# Altium integrated library TI_Logic_Flip-Flop,Latch,Register.IntLib: 2598 symbols (part 62 of 122)
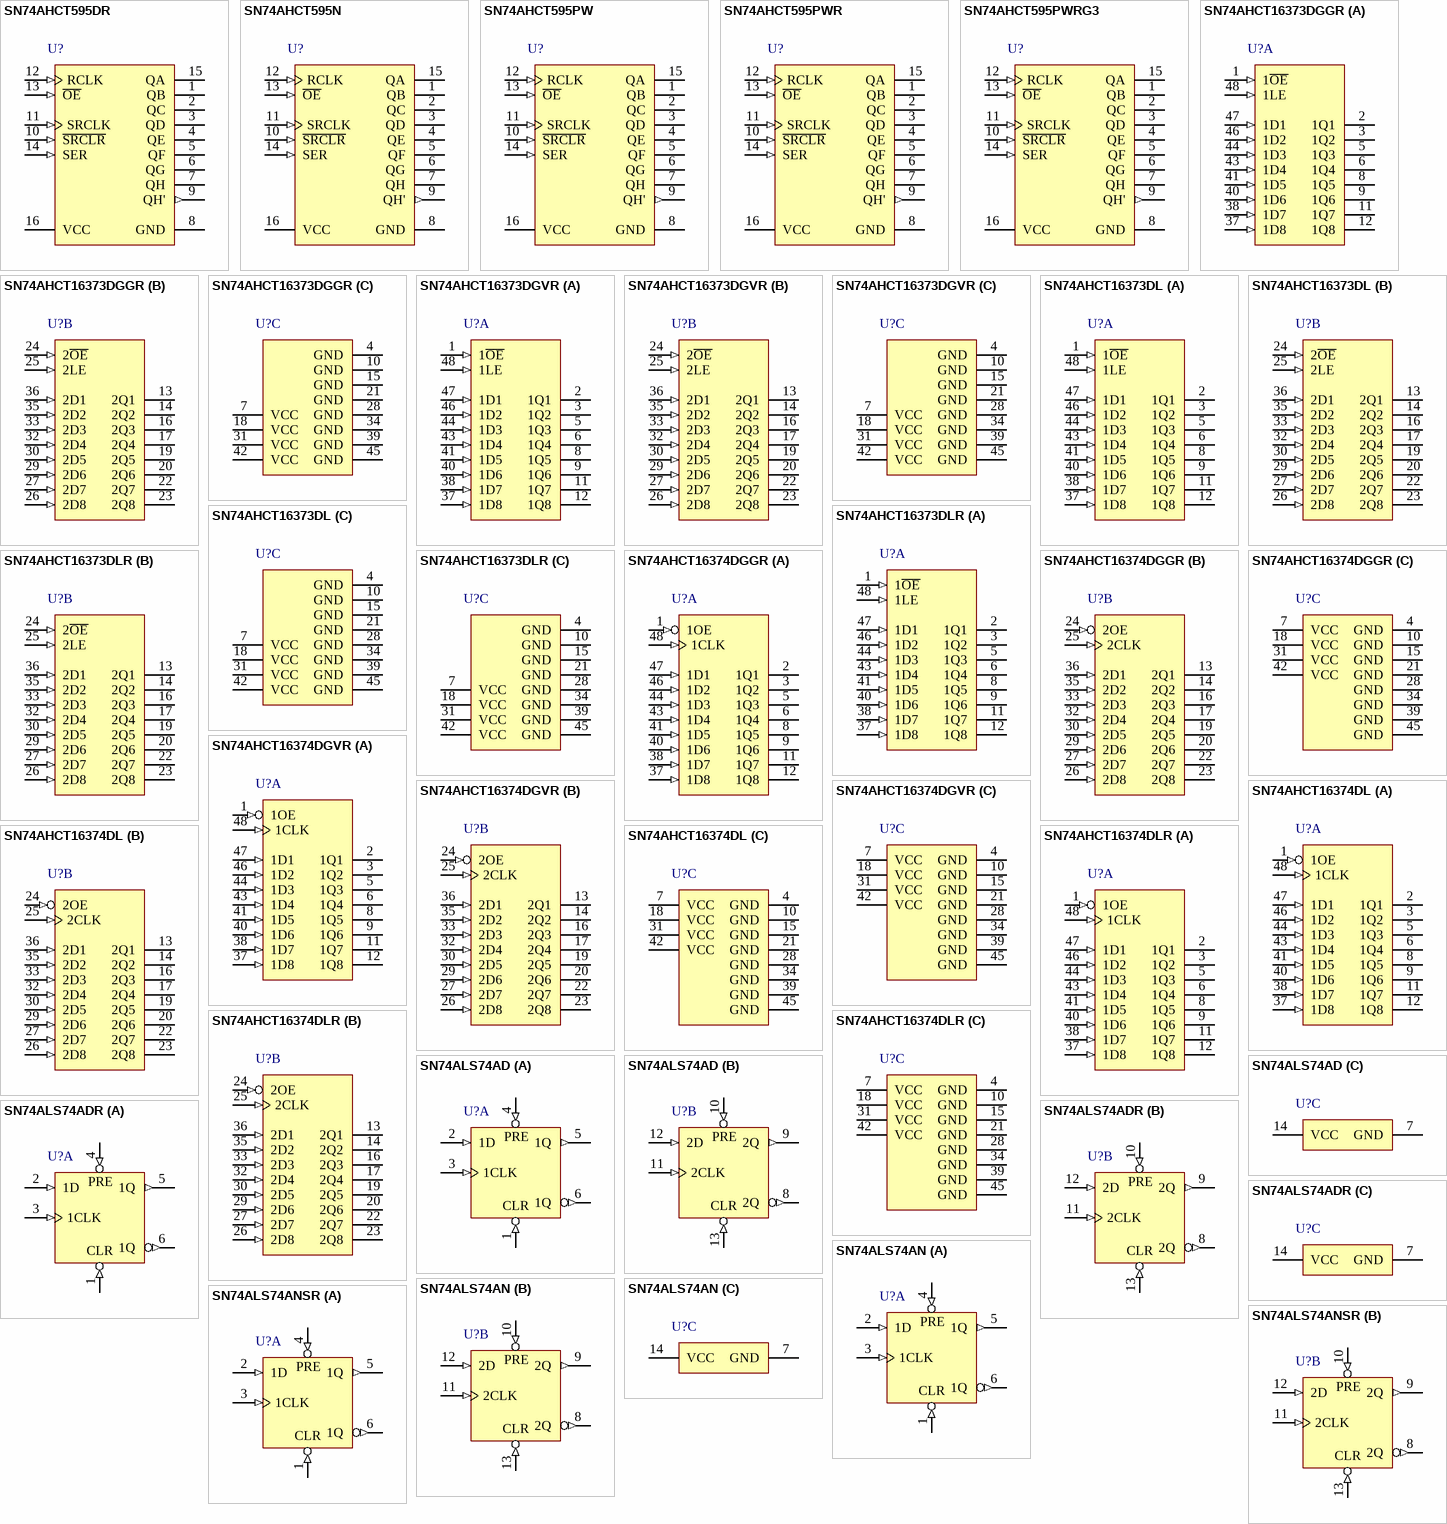
[diagram p200: symbols SN74AHCT595DR to SN74ALS74ANSR]

## SN74ALS74ADR
designator U?
Dual Positive-Edge-Triggered D-Type Flip-Flops With Clear And Preset, D0014A, LARGE T&R; Generic Part Number: SN74ALS74A; Manufacturer: Texas Instruments; PartNumber: SN74ALS74ADR; VCC(Min)(V): 4.5; VCC(Max)(V): 5.5; Output Type: TTL; Output: 3S; ICC @ Nom Voltage(Max)(mA): 4; Bits(#): 2; F @ Nom Voltage(Max)(Mhz): 70; Rating: Catalog; Technology Family: ALS; Voltage(Nom)(V): 5; Schmitt Trigger: No; Output Drive (IOL/IOH)(Max)(mA): 8/-0.4; Output Logic: Inverted,Non-inverted; tpd @ Nom Voltage(Max)(ns): 18; DatasheetVersion: SDAS143C; PackageReference: D0014A; Supplier 1: Digi-Key; Supplier Part Number 1: 296-1130-2-ND; Supplier 2: Digi-Key; Supplier Part Number 2: 296-1130-1-ND; Supplier 3: Digi-Key; Supplier Part Number 3: 296-1130-6-ND; Supplier 4: Newark; Supplier Part Number 4: 76C2202; Supplier 5: Mouser; Supplier Part Number 5: 595-SN74ALS74ADR; Input Type: TTL; Operating Temperature Range(C): 0 to 70; 3-State Output: No; Code_JEDEC: MS-012; ComponentLink1Description: Manufacturer URL; ComponentLink1URL: http://www.ti.com/; ComponentLink2Description: Datasheet; ComponentLink2URL: http://www.ti.com/lit/ds/symlink/sn74als74a.pdf; ComponentLink3Description: Package Specification; ComponentLink3URL: http://www.ti.com/lit/ml/mpds177g/mpds177g.pdf
footprint D0014A_N (SOIC, 14-Leads, Body 8.75x4mm, Pitch 1.27mm, IPC Medium Density)
footprint D0014A_M (SOIC, 14-Leads, Body 8.75x4mm, Pitch 1.27mm, IPC Low Density)
footprint D0014A_L (SOIC, 14-Leads, Body 8.75x4mm, Pitch 1.27mm, IPC High Density)
part A pins: 1 1~{CLR} (in), 2 1D (in), 3 1CLK (in), 4 1~{PRE} (in), 5 1Q (out), 6 1Q (out)
part B pins: 8 2Q (out), 9 2Q (out), 10 2~{PRE} (in), 11 2CLK (in), 12 2D (in), 13 2~{CLR} (in)
part C pins: 7 GND (power), 14 VCC (power)
part A text: PRE; CLR
part B text: PRE; CLR

## SN74ALS74AN
designator U?
Dual Positive-Edge-Triggered D-Type Flip-Flops With Clear And Preset, N0014A, TUBE; Generic Part Number: SN74ALS74A; Manufacturer: Texas Instruments; PartNumber: SN74ALS74AN; VCC(Min)(V): 4.5; VCC(Max)(V): 5.5; Output Type: TTL; Output: 3S; ICC @ Nom Voltage(Max)(mA): 4; Bits(#): 2; F @ Nom Voltage(Max)(Mhz): 70; Rating: Catalog; Technology Family: ALS; Voltage(Nom)(V): 5; Schmitt Trigger: No; Output Drive (IOL/IOH)(Max)(mA): 8/-0.4; Output Logic: Inverted,Non-inverted; tpd @ Nom Voltage(Max)(ns): 18; DatasheetVersion: SDAS143C; PackageReference: N0014A; Supplier 1: Digi-Key; Supplier Part Number 1: 296-1506-5-ND; Supplier 2: Farnell; Supplier Part Number 2: 1105950; Supplier 3: Newark; Supplier Part Number 3: 24M7581; Supplier 4: Mouser; Supplier Part Number 4: 595-SN74ALS74AN; Input Type: TTL; Operating Temperature Range(C): 0 to 70; 3-State Output: No; Code_JEDEC: MS-001; ComponentLink1Description: Manufacturer URL; ComponentLink1URL: http://www.ti.com/; ComponentLink2Description: Datasheet; ComponentLink2URL: http://www.ti.com/lit/ds/symlink/sn74als74a.pdf; ComponentLink3Description: Package Specification; ComponentLink3URL: http://www.ti.com/lit/ml/mpdi002c/mpdi002c.pdf
footprint N0014A (DIP, 14-Leads, Body 19.7x6.6mm, Pitch 2.54mm)
part A pins: 1 1~{CLR} (in), 2 1D (in), 3 1CLK (in), 4 1~{PRE} (in), 5 1Q (out), 6 1Q (out)
part B pins: 8 2Q (out), 9 2Q (out), 10 2~{PRE} (in), 11 2CLK (in), 12 2D (in), 13 2~{CLR} (in)
part C pins: 7 GND (power), 14 VCC (power)
part A text: PRE; CLR
part B text: PRE; CLR

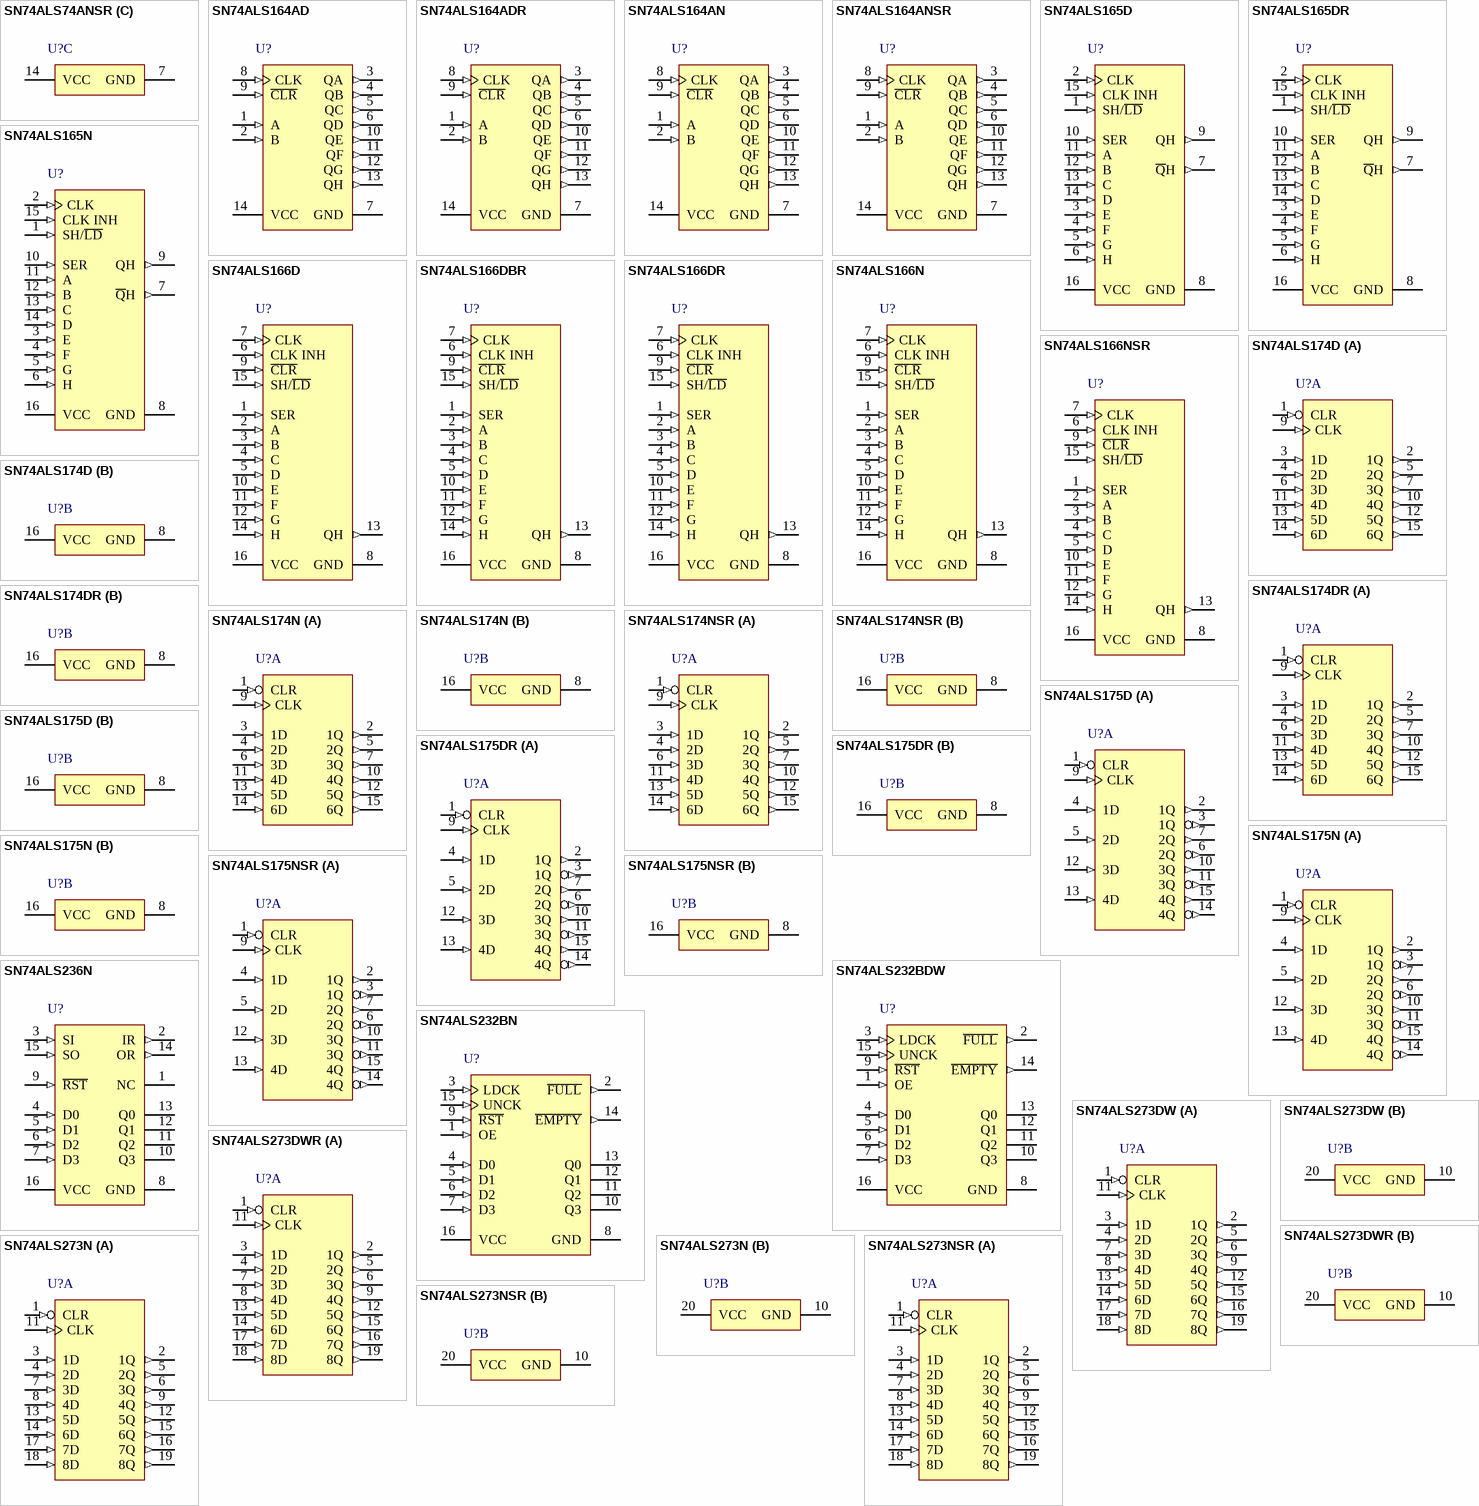
[diagram p72: symbols SN74ALS74ANSR to SN74ALS273NSR]

## SN74ALS74ANSR
designator U?
Dual Positive-Edge-Triggered D-Type Flip-Flops With Clear And Preset, NS0014A, LARGE T&R; Generic Part Number: SN74ALS74A; Manufacturer: Texas Instruments; PartNumber: SN74ALS74ANSR; VCC(Min)(V): 4.5; VCC(Max)(V): 5.5; Output Type: TTL; Output: 3S; ICC @ Nom Voltage(Max)(mA): 4; Bits(#): 2; F @ Nom Voltage(Max)(Mhz): 70; Rating: Catalog; Technology Family: ALS; Voltage(Nom)(V): 5; Schmitt Trigger: No; Output Drive (IOL/IOH)(Max)(mA): 8/-0.4; Output Logic: Inverted,Non-inverted; tpd @ Nom Voltage(Max)(ns): 18; DatasheetVersion: SDAS143C; PackageReference: NS0014A; Supplier 1: Digi-Key; Supplier Part Number 1: SN74ALS74ANSR-ND; Supplier 2: Mouser; Supplier Part Number 2: 595-SN74ALS74ANSR; Input Type: TTL; Operating Temperature Range(C): 0 to 70; 3-State Output: No; ComponentLink1Description: Manufacturer URL; ComponentLink1URL: http://www.ti.com/; ComponentLink2Description: Datasheet; ComponentLink2URL: http://www.ti.com/lit/ds/symlink/sn74als74a.pdf; ComponentLink3Description: Package Specification; ComponentLink3URL: http://www.ti.com/lit/ml/msop002a/msop002a.pdf
footprint NS0014A_N (SOIC,14-Leads,Body 10.5x5.6mm,Pitch 1.27mm,IPC Medium Density)
footprint NS0014A_M (SOIC,14-Leads,Body 10.5x5.6mm,Pitch 1.27mm,IPC Low Density)
footprint NS0014A_L (SOIC,14-Leads,Body 10.5x5.6mm,Pitch 0.4mm,IPC High Density)
part A pins: 1 1~{CLR} (in), 2 1D (in), 3 1CLK (in), 4 1~{PRE} (in), 5 1Q (out), 6 1Q (out)
part B pins: 8 2Q (out), 9 2Q (out), 10 2~{PRE} (in), 11 2CLK (in), 12 2D (in), 13 2~{CLR} (in)
part C pins: 7 GND (power), 14 VCC (power)
part A text: PRE; CLR
part B text: PRE; CLR

## SN74ALS164AD
designator U?
8-Bit Parallel-Out Serial Shift Registers, D0014A, TUBE; Generic Part Number: SN74ALS164A; Manufacturer: Texas Instruments; PartNumber: SN74ALS164AD; Technology Family: ALS; VCC(Min)(V): 4.5; VCC(Max)(V): 5.5; Voltage(Nom)(V): 5; F @ Nom Voltage(Max)(Mhz): 75; ICC @ Nom Voltage(Max)(mA): 24; tpd @ Nom Voltage(Max)(ns): 17; Output Drive (IOL/IOH)(Max)(mA): 8/-0.4; Input Type: TTL; 3-State Output: No; Rating: Catalog; Bits: 8; DatasheetVersion: SDAS159D; PackageReference: D0014A; Output Type: TTL; Operating Temperature Range(C): 0 to 70; Code_JEDEC: MS-012; ComponentLink1Description: Manufacturer URL; ComponentLink1URL: http://www.ti.com/; ComponentLink2Description: Datasheet; ComponentLink2URL: http://www.ti.com/lit/ds/symlink/sn74als164a.pdf; ComponentLink3Description: Package Specification; ComponentLink3URL: http://www.ti.com/lit/ml/mpds177g/mpds177g.pdf
footprint D0014A_N (SOIC, 14-Leads, Body 8.75x4mm, Pitch 1.27mm, IPC Medium Density)
footprint D0014A_M (SOIC, 14-Leads, Body 8.75x4mm, Pitch 1.27mm, IPC Low Density)
footprint D0014A_L (SOIC, 14-Leads, Body 8.75x4mm, Pitch 1.27mm, IPC High Density)
pins: 1 A (in) "Serial input A", 2 B (in) "Serial input B", 3 QA (out) "Output A", 4 QB (out) "Output B", 5 QC (out) "Output C", 6 QD (out) "Output D", 7 GND (power) "Ground pin", 8 CLK (in) "Storage clock", 9 ~{CLR} (in) "Storage clear", 10 QE (out) "Output E", 11 QF (out) "Output F", 12 QG (out) "Output G", 13 QH (out) "Output H", 14 VCC (power) "Power pin"

## SN74ALS164ADR
designator U?
8-Bit Parallel-Out Serial Shift Registers, D0014A, LARGE T&R; Generic Part Number: SN74ALS164A; Manufacturer: Texas Instruments; PartNumber: SN74ALS164ADR; Technology Family: ALS; VCC(Min)(V): 4.5; VCC(Max)(V): 5.5; Voltage(Nom)(V): 5; F @ Nom Voltage(Max)(Mhz): 75; ICC @ Nom Voltage(Max)(mA): 24; tpd @ Nom Voltage(Max)(ns): 17; Output Drive (IOL/IOH)(Max)(mA): 8/-0.4; Input Type: TTL; 3-State Output: No; Rating: Catalog; Bits: 8; DatasheetVersion: SDAS159D; PackageReference: D0014A; Output Type: TTL; Operating Temperature Range(C): 0 to 70; Code_JEDEC: MS-012; ComponentLink1Description: Manufacturer URL; ComponentLink1URL: http://www.ti.com/; ComponentLink2Description: Datasheet; ComponentLink2URL: http://www.ti.com/lit/ds/symlink/sn74als164a.pdf; ComponentLink3Description: Package Specification; ComponentLink3URL: http://www.ti.com/lit/ml/mpds177g/mpds177g.pdf
footprint D0014A_N (SOIC, 14-Leads, Body 8.75x4mm, Pitch 1.27mm, IPC Medium Density)
footprint D0014A_M (SOIC, 14-Leads, Body 8.75x4mm, Pitch 1.27mm, IPC Low Density)
footprint D0014A_L (SOIC, 14-Leads, Body 8.75x4mm, Pitch 1.27mm, IPC High Density)
pins: 1 A (in) "Serial input A", 2 B (in) "Serial input B", 3 QA (out) "Output A", 4 QB (out) "Output B", 5 QC (out) "Output C", 6 QD (out) "Output D", 7 GND (power) "Ground pin", 8 CLK (in) "Storage clock", 9 ~{CLR} (in) "Storage clear", 10 QE (out) "Output E", 11 QF (out) "Output F", 12 QG (out) "Output G", 13 QH (out) "Output H", 14 VCC (power) "Power pin"

## SN74ALS164AN
designator U?
8-Bit Parallel-Out Serial Shift Registers, N0014A, TUBE; Generic Part Number: SN74ALS164A; Manufacturer: Texas Instruments; PartNumber: SN74ALS164AN; Technology Family: ALS; VCC(Min)(V): 4.5; VCC(Max)(V): 5.5; Voltage(Nom)(V): 5; F @ Nom Voltage(Max)(Mhz): 75; ICC @ Nom Voltage(Max)(mA): 24; tpd @ Nom Voltage(Max)(ns): 17; Output Drive (IOL/IOH)(Max)(mA): 8/-0.4; Input Type: TTL; 3-State Output: No; Rating: Catalog; DatasheetVersion: SDAS159D; PackageReference: N0014A; Output Type: TTL; Operating Temperature Range(C): 0 to 70; Code_JEDEC: MS-001; ComponentLink1Description: Manufacturer URL; ComponentLink1URL: http://www.ti.com/; ComponentLink2Description: Datasheet; ComponentLink2URL: http://www.ti.com/lit/ds/symlink/sn74als164a.pdf; ComponentLink3Description: Package Specification; ComponentLink3URL: http://www.ti.com/lit/ml/mpdi002c/mpdi002c.pdf
footprint N0014A (DIP, 14-Leads, Body 19.7x6.6mm, Pitch 2.54mm)
pins: 1 A (in) "Serial input A", 2 B (in) "Serial input B", 3 QA (out) "Output A", 4 QB (out) "Output B", 5 QC (out) "Output C", 6 QD (out) "Output D", 7 GND (power) "Ground pin", 8 CLK (in) "Storage clock", 9 ~{CLR} (in) "Storage clear", 10 QE (out) "Output E", 11 QF (out) "Output F", 12 QG (out) "Output G", 13 QH (out) "Output H", 14 VCC (power) "Power pin"

## SN74ALS164ANSR
designator U?
8-Bit Parallel-Out Serial Shift Registers, NS0014A, LARGE T&R; Generic Part Number: SN74ALS164A; Manufacturer: Texas Instruments; PartNumber: SN74ALS164ANSR; Technology Family: ALS; VCC(Min)(V): 4.5; VCC(Max)(V): 5.5; Voltage(Nom)(V): 5; F @ Nom Voltage(Max)(Mhz): 75; ICC @ Nom Voltage(Max)(mA): 24; tpd @ Nom Voltage(Max)(ns): 17; Output Drive (IOL/IOH)(Max)(mA): 8/-0.4; Input Type: TTL; 3-State Output: No; Rating: Catalog; Bits: 4; DatasheetVersion: SDAS159D; PackageReference: NS0014A; Output Type: TTL; Operating Temperature Range(C): 0 to 70; ComponentLink1Description: Manufacturer URL; ComponentLink1URL: http://www.ti.com/; ComponentLink2Description: Datasheet; ComponentLink2URL: http://www.ti.com/lit/ds/symlink/sn74als164a.pdf; ComponentLink3Description: Package Specification; ComponentLink3URL: http://www.ti.com/lit/ml/msop002a/msop002a.pdf
footprint NS0014A_N (SOIC,14-Leads,Body 10.5x5.6mm,Pitch 1.27mm,IPC Medium Density)
footprint NS0014A_M (SOIC,14-Leads,Body 10.5x5.6mm,Pitch 1.27mm,IPC Low Density)
footprint NS0014A_L (SOIC,14-Leads,Body 10.5x5.6mm,Pitch 0.4mm,IPC High Density)
pins: 1 A (in) "Serial input A", 2 B (in) "Serial input B", 3 QA (out) "Output A", 4 QB (out) "Output B", 5 QC (out) "Output C", 6 QD (out) "Output D", 7 GND (power) "Ground pin", 8 CLK (in) "Storage clock", 9 ~{CLR} (in) "Storage clear", 10 QE (out) "Output E", 11 QF (out) "Output F", 12 QG (out) "Output G", 13 QH (out) "Output H", 14 VCC (power) "Power pin"

## SN74ALS165D
designator U?
Parallel-Load 8-Bit Serial Shift Registers, D0016A, TUBE; Generic Part Number: SN74ALS165; Manufacturer: Texas Instruments; PartNumber: SN74ALS165D; Technology Family: ALS; VCC(Min)(V): 4.5; VCC(Max)(V): 5.5; Voltage(Nom)(V): 5; F @ Nom Voltage(Max)(Mhz): 75; ICC @ Nom Voltage(Max)(mA): 24; tpd @ Nom Voltage(Max)(ns): 14; Output Drive (IOL/IOH)(Max)(mA): 8/-0.4; Input Type: TTL; 3-State Output: No; Rating: Catalog; Bits: 8; DatasheetVersion: SDAS157B; PackageReference: D0016A; Output Type: TTL; Operating Temperature Range(C): 0 to 70; Code_JEDEC: MS-012 variation AC; ComponentLink1Description: Manufacturer URL; ComponentLink1URL: http://www.ti.com/; ComponentLink2Description: Datasheet; ComponentLink2URL: http://www.ti.com/lit/ds/symlink/sn74als165.pdf; ComponentLink3Description: Package Specification; ComponentLink3URL: http://www.ti.com/lit/ml/mpds178g/mpds178g.pdf
footprint D0016A_N (SOIC, 16-Leads, Body 10x4mm, Pitch 1.27mm, IPC Medium Density)
footprint D0016A_M (SOIC, 16-Leads, Body 10x4mm, Pitch 1.27mm, IPC Low Density)
footprint D0016A_L (SOIC, 16-Leads, Body 10x4mm, Pitch 1.27mm, IPC High Density)
pins: 1 SH/~{LD} (in), 2 CLK (in), 3 E (in), 4 F (in), 5 G (in), 6 H (in), 7 ~{Q}H (out), 8 GND (power), 9 QH (out), 10 SER (in), 11 A (in), 12 B (in), 13 C (in), 14 D (in), 15 CLK INH (in), 16 VCC (power)

## SN74ALS165DR
designator U?
Parallel-Load 8-Bit Serial Shift Registers, D0016A, LARGE T&R; Generic Part Number: SN74ALS165; Manufacturer: Texas Instruments; PartNumber: SN74ALS165DR; Technology Family: ALS; VCC(Min)(V): 4.5; VCC(Max)(V): 5.5; Voltage(Nom)(V): 5; F @ Nom Voltage(Max)(Mhz): 75; ICC @ Nom Voltage(Max)(mA): 24; tpd @ Nom Voltage(Max)(ns): 14; Output Drive (IOL/IOH)(Max)(mA): 8/-0.4; Input Type: TTL; 3-State Output: No; Rating: Catalog; Bits: 8; DatasheetVersion: SDAS157B; PackageReference: D0016A; Output Type: TTL; Operating Temperature Range(C): 0 to 70; Code_JEDEC: MS-012 variation AC; ComponentLink1Description: Manufacturer URL; ComponentLink1URL: http://www.ti.com/; ComponentLink2Description: Datasheet; ComponentLink2URL: http://www.ti.com/lit/ds/symlink/sn74als165.pdf; ComponentLink3Description: Package Specification; ComponentLink3URL: http://www.ti.com/lit/ml/mpds178g/mpds178g.pdf
footprint D0016A_N (SOIC, 16-Leads, Body 10x4mm, Pitch 1.27mm, IPC Medium Density)
footprint D0016A_M (SOIC, 16-Leads, Body 10x4mm, Pitch 1.27mm, IPC Low Density)
footprint D0016A_L (SOIC, 16-Leads, Body 10x4mm, Pitch 1.27mm, IPC High Density)
pins: 1 SH/~{LD} (in), 2 CLK (in), 3 E (in), 4 F (in), 5 G (in), 6 H (in), 7 ~{Q}H (out), 8 GND (power), 9 QH (out), 10 SER (in), 11 A (in), 12 B (in), 13 C (in), 14 D (in), 15 CLK INH (in), 16 VCC (power)

## SN74ALS165N
designator U?
Parallel-Load 8-Bit Serial Shift Registers, N0016A, TUBE; Generic Part Number: SN74ALS165; Manufacturer: Texas Instruments; PartNumber: SN74ALS165N; Technology Family: ALS; VCC(Min)(V): 4.5; VCC(Max)(V): 5.5; Voltage(Nom)(V): 5; F @ Nom Voltage(Max)(Mhz): 75; ICC @ Nom Voltage(Max)(mA): 24; tpd @ Nom Voltage(Max)(ns): 14; Output Drive (IOL/IOH)(Max)(mA): 8/-0.4; Input Type: TTL; 3-State Output: No; Rating: Catalog; DatasheetVersion: SDAS157B; PackageReference: N0016A; Output Type: TTL; Operating Temperature Range(C): 0 to 70; Code_JEDEC: MS-001; ComponentLink1Description: Manufacturer URL; ComponentLink1URL: http://www.ti.com/; ComponentLink2Description: Datasheet; ComponentLink2URL: http://www.ti.com/lit/ds/symlink/sn74als165.pdf; ComponentLink3Description: Package Specification; ComponentLink3URL: http://www.ti.com/lit/ml/mpdi002c/mpdi002c.pdf
footprint N0016A (DIP, 16-Leads, Body 19.7x6.6mm, Pitch 2.54mm)
pins: 1 SH/~{LD} (in), 2 CLK (in), 3 E (in), 4 F (in), 5 G (in), 6 H (in), 7 ~{Q}H (out), 8 GND (power), 9 QH (out), 10 SER (in), 11 A (in), 12 B (in), 13 C (in), 14 D (in), 15 CLK INH (in), 16 VCC (power)

## SN74ALS166D
designator U?
Parallel-Load 8-Bit Serial Shift Registers, D0016A, TUBE; Generic Part Number: SN74ALS166; Manufacturer: Texas Instruments; PartNumber: SN74ALS166D; Technology Family: ALS; VCC(Min)(V): 4.5; VCC(Max)(V): 5.5; Voltage(Nom)(V): 5; F @ Nom Voltage(Max)(Mhz): 75; ICC @ Nom Voltage(Max)(mA): 24; tpd @ Nom Voltage(Max)(ns): 13; Output Drive (IOL/IOH)(Max)(mA): 8/-0.4; Input Type: TTL; 3-State Output: No; Rating: Catalog; Bits: 8; DatasheetVersion: SDAS156D; PackageReference: D0016A; Output Type: TTL; Operating Temperature Range(C): 0 to 70; Code_JEDEC: MS-012 variation AC; ComponentLink1Description: Manufacturer URL; ComponentLink1URL: http://www.ti.com/; ComponentLink2Description: Datasheet; ComponentLink2URL: http://www.ti.com/lit/ds/symlink/sn74als166.pdf; ComponentLink3Description: Package Specification; ComponentLink3URL: http://www.ti.com/lit/ml/mpds178g/mpds178g.pdf
footprint D0016A_N (SOIC, 16-Leads, Body 10x4mm, Pitch 1.27mm, IPC Medium Density)
footprint D0016A_M (SOIC, 16-Leads, Body 10x4mm, Pitch 1.27mm, IPC Low Density)
footprint D0016A_L (SOIC, 16-Leads, Body 10x4mm, Pitch 1.27mm, IPC High Density)
pins: 1 SER (in), 2 A (in), 3 B (in), 4 C (in), 5 D (in), 6 CLK INH (in), 7 CLK (in), 8 GND (power), 9 ~{CLR} (in), 10 E (in), 11 F (in), 12 G (in), 13 QH (out), 14 H (in), 15 SH/~{LD} (in), 16 VCC (power)

## SN74ALS166DBR
designator U?
Parallel-Load 8-Bit Serial Shift Registers, DB0016A, LARGE T&R; Generic Part Number: SN74ALS166; Manufacturer: Texas Instruments; PartNumber: SN74ALS166DBR; Technology Family: ALS; VCC(Min)(V): 4.5; VCC(Max)(V): 5.5; Voltage(Nom)(V): 5; F @ Nom Voltage(Max)(Mhz): 75; ICC @ Nom Voltage(Max)(mA): 24; tpd @ Nom Voltage(Max)(ns): 13; Output Drive (IOL/IOH)(Max)(mA): 8/-0.4; Input Type: TTL; 3-State Output: No; Rating: Catalog; Bits: 8; DatasheetVersion: SDAS156D; PackageReference: DB0016A; Output Type: TTL; Operating Temperature Range(C): 0 to 70; Code_JEDEC: MO-150; ComponentLink1Description: Manufacturer URL; ComponentLink1URL: http://www.ti.com/; ComponentLink2Description: Datasheet; ComponentLink2URL: http://www.ti.com/lit/ds/symlink/sn74als166.pdf; ComponentLink3Description: Package Specification; ComponentLink3URL: http://www.ti.com/lit/ml/mpds507/mpds507.pdf
footprint DB0016A_N (SOP, 16-Leads, Body 5.6x6.5mm, Pitch 0.65mm, IPC Medium Density)
footprint DB0016A_M (SOP, 16-Leads, Body 5.6x6.5mm, Pitch 0.65mm, IPC Low Density)
footprint DB0016A_L (SOP, 16-Leads, Body 5.6x6.5mm, Pitch 0.65mm, IPC High Density)
pins: 1 SER (in), 2 A (in), 3 B (in), 4 C (in), 5 D (in), 6 CLK INH (in), 7 CLK (in), 8 GND (power), 9 ~{CLR} (in), 10 E (in), 11 F (in), 12 G (in), 13 QH (out), 14 H (in), 15 SH/~{LD} (in), 16 VCC (power)

## SN74ALS166DR
designator U?
Parallel-Load 8-Bit Serial Shift Registers, D0016A, LARGE T&R; Generic Part Number: SN74ALS166; Manufacturer: Texas Instruments; PartNumber: SN74ALS166DR; Technology Family: ALS; VCC(Min)(V): 4.5; VCC(Max)(V): 5.5; Voltage(Nom)(V): 5; F @ Nom Voltage(Max)(Mhz): 75; ICC @ Nom Voltage(Max)(mA): 24; tpd @ Nom Voltage(Max)(ns): 13; Output Drive (IOL/IOH)(Max)(mA): 8/-0.4; Input Type: TTL; 3-State Output: No; Rating: Catalog; DatasheetVersion: SDAS156D; PackageReference: D0016A; Output Type: TTL; Operating Temperature Range(C): 0 to 70; Code_JEDEC: MS-012 variation AC; ComponentLink1Description: Manufacturer URL; ComponentLink1URL: http://www.ti.com/; ComponentLink2Description: Datasheet; ComponentLink2URL: http://www.ti.com/lit/ds/symlink/sn74als166.pdf; ComponentLink3Description: Package Specification; ComponentLink3URL: http://www.ti.com/lit/ml/mpds178g/mpds178g.pdf
footprint D0016A_N (SOIC, 16-Leads, Body 10x4mm, Pitch 1.27mm, IPC Medium Density)
footprint D0016A_M (SOIC, 16-Leads, Body 10x4mm, Pitch 1.27mm, IPC Low Density)
footprint D0016A_L (SOIC, 16-Leads, Body 10x4mm, Pitch 1.27mm, IPC High Density)
pins: 1 SER (in), 2 A (in), 3 B (in), 4 C (in), 5 D (in), 6 CLK INH (in), 7 CLK (in), 8 GND (power), 9 ~{CLR} (in), 10 E (in), 11 F (in), 12 G (in), 13 QH (out), 14 H (in), 15 SH/~{LD} (in), 16 VCC (power)

## SN74ALS166N
designator U?
Parallel-Load 8-Bit Serial Shift Registers, N0016A, TUBE; Generic Part Number: SN74ALS166; Manufacturer: Texas Instruments; PartNumber: SN74ALS166N; Technology Family: ALS; VCC(Min)(V): 4.5; VCC(Max)(V): 5.5; Voltage(Nom)(V): 5; F @ Nom Voltage(Max)(Mhz): 75; ICC @ Nom Voltage(Max)(mA): 24; tpd @ Nom Voltage(Max)(ns): 13; Output Drive (IOL/IOH)(Max)(mA): 8/-0.4; Input Type: TTL; 3-State Output: No; Rating: Catalog; Bits: 8; DatasheetVersion: SDAS156D; PackageReference: N0016A; Output Type: TTL; Operating Temperature Range(C): 0 to 70; Code_JEDEC: MS-001; ComponentLink1Description: Manufacturer URL; ComponentLink1URL: http://www.ti.com/; ComponentLink2Description: Datasheet; ComponentLink2URL: http://www.ti.com/lit/ds/symlink/sn74als166.pdf; ComponentLink3Description: Package Specification; ComponentLink3URL: http://www.ti.com/lit/ml/mpdi002c/mpdi002c.pdf
footprint N0016A (DIP, 16-Leads, Body 19.7x6.6mm, Pitch 2.54mm)
pins: 1 SER (in), 2 A (in), 3 B (in), 4 C (in), 5 D (in), 6 CLK INH (in), 7 CLK (in), 8 GND (power), 9 ~{CLR} (in), 10 E (in), 11 F (in), 12 G (in), 13 QH (out), 14 H (in), 15 SH/~{LD} (in), 16 VCC (power)

## SN74ALS166NSR
designator U?
Parallel-Load 8-Bit Serial Shift Registers, NS0016A, LARGE T&R; Generic Part Number: SN74ALS166; Manufacturer: Texas Instruments; PartNumber: SN74ALS166NSR; Technology Family: ALS; VCC(Min)(V): 4.5; VCC(Max)(V): 5.5; Voltage(Nom)(V): 5; F @ Nom Voltage(Max)(Mhz): 75; ICC @ Nom Voltage(Max)(mA): 24; tpd @ Nom Voltage(Max)(ns): 13; Output Drive (IOL/IOH)(Max)(mA): 8/-0.4; Input Type: TTL; 3-State Output: No; Rating: Catalog; DatasheetVersion: SDAS156D; PackageReference: NS0016A; Output Type: TTL; Operating Temperature Range(C): 0 to 70; ComponentLink1Description: Manufacturer URL; ComponentLink1URL: http://www.ti.com/; ComponentLink2Description: Datasheet; ComponentLink2URL: http://www.ti.com/lit/ds/symlink/sn74als166.pdf; ComponentLink3Description: Package Specification; ComponentLink3URL: http://www.ti.com/lit/ml/msop002a/msop002a.pdf
footprint NS0016A_N (SOIC,16-Leads,Body 10.5x5.6mm,Pitch 1.27mm,IPC Medium Density)
footprint NS0016A_M (SOIC,16-Leads,Body 10.5x5.6mm,Pitch 1.27mm,IPC Low Density)
footprint NS0016A_L (SOIC,16-Leads,Body 10.5x5.6mm,Pitch 1.27mm,IPC High Density)
pins: 1 SER (in), 2 A (in), 3 B (in), 4 C (in), 5 D (in), 6 CLK INH (in), 7 CLK (in), 8 GND (power), 9 ~{CLR} (in), 10 E (in), 11 F (in), 12 G (in), 13 QH (out), 14 H (in), 15 SH/~{LD} (in), 16 VCC (power)

## SN74ALS174D
designator U?
Hex D-Type Positive-Edge-Triggered Flip-Flops With Clear, D0016A, TUBE; Generic Part Number: SN74ALS174; Manufacturer: Texas Instruments; PartNumber: SN74ALS174D; VCC(Min)(V): 4.5; VCC(Max)(V): 5.5; Output Type: TTL; Output: 2S; ICC @ Nom Voltage(Max)(mA): 19; Bits(#): 6; F @ Nom Voltage(Max)(Mhz): 70; Rating: Catalog; Technology Family: ALS; Voltage(Nom)(V): 5; Schmitt Trigger: No; Output Drive (IOL/IOH)(Max)(mA): 8/-0.4; Output Logic: Inverted,Non-inverted; tpd @ Nom Voltage(Max)(ns): 17; DatasheetVersion: SDAS207E; PackageReference: D0016A; Supplier 1: Digi-Key; Supplier Part Number 1: 296-5029-5-ND; Supplier 2: Farnell; Supplier Part Number 2: 1752879; Supplier 3: Mouser; Supplier Part Number 3: 595-SN74ALS174D; Input Type: TTL; Operating Temperature Range(C): 0 to 70; 3-State Output: No; Code_JEDEC: MS-012 variation AC; ComponentLink1Description: Manufacturer URL; ComponentLink1URL: http://www.ti.com/; ComponentLink2Description: Datasheet; ComponentLink2URL: http://www.ti.com/lit/ds/symlink/sn74als174.pdf; ComponentLink3Description: Package Specification; ComponentLink3URL: http://www.ti.com/lit/ml/mpds178g/mpds178g.pdf
footprint D0016A_N (SOIC, 16-Leads, Body 10x4mm, Pitch 1.27mm, IPC Medium Density)
footprint D0016A_M (SOIC, 16-Leads, Body 10x4mm, Pitch 1.27mm, IPC Low Density)
footprint D0016A_L (SOIC, 16-Leads, Body 10x4mm, Pitch 1.27mm, IPC High Density)
part A pins: 1 CLR (in), 2 1Q (out), 3 1D (in), 4 2D (in), 5 2Q (out), 6 3D (in), 7 3Q (out), 9 CLK (in), 10 4Q (out), 11 4D (in), 12 5Q (out), 13 5D (in), 14 6D (in), 15 6Q (out)
part B pins: 8 GND (power), 16 VCC (power)

## SN74ALS174DR
designator U?
Hex D-Type Positive-Edge-Triggered Flip-Flops With Clear, D0016A, LARGE T&R; Generic Part Number: SN74ALS174; Manufacturer: Texas Instruments; PartNumber: SN74ALS174DR; VCC(Min)(V): 4.5; VCC(Max)(V): 5.5; Output Type: TTL; Output: 2S; ICC @ Nom Voltage(Max)(mA): 19; Bits(#): 6; F @ Nom Voltage(Max)(Mhz): 70; Rating: Catalog; Technology Family: ALS; Voltage(Nom)(V): 5; Schmitt Trigger: No; Output Drive (IOL/IOH)(Max)(mA): 8/-0.4; Output Logic: Inverted,Non-inverted; tpd @ Nom Voltage(Max)(ns): 17; DatasheetVersion: SDAS207E; PackageReference: D0016A; Supplier 1: Digi-Key; Supplier Part Number 1: SN74ALS174DR-ND; Supplier 2: Mouser; Supplier Part Number 2: 595-SN74ALS174DR; Input Type: TTL; Operating Temperature Range(C): 0 to 70; 3-State Output: No; Code_JEDEC: MS-012 variation AC; ComponentLink1Description: Manufacturer URL; ComponentLink1URL: http://www.ti.com/; ComponentLink2Description: Datasheet; ComponentLink2URL: http://www.ti.com/lit/ds/symlink/sn74als174.pdf; ComponentLink3Description: Package Specification; ComponentLink3URL: http://www.ti.com/lit/ml/mpds178g/mpds178g.pdf
footprint D0016A_N (SOIC, 16-Leads, Body 10x4mm, Pitch 1.27mm, IPC Medium Density)
footprint D0016A_M (SOIC, 16-Leads, Body 10x4mm, Pitch 1.27mm, IPC Low Density)
footprint D0016A_L (SOIC, 16-Leads, Body 10x4mm, Pitch 1.27mm, IPC High Density)
part A pins: 1 CLR (in), 2 1Q (out), 3 1D (in), 4 2D (in), 5 2Q (out), 6 3D (in), 7 3Q (out), 9 CLK (in), 10 4Q (out), 11 4D (in), 12 5Q (out), 13 5D (in), 14 6D (in), 15 6Q (out)
part B pins: 8 GND (power), 16 VCC (power)

## SN74ALS174N
designator U?
Hex D-Type Positive-Edge-Triggered Flip-Flops With Clear, N0016A, TUBE; Generic Part Number: SN74ALS174; Manufacturer: Texas Instruments; PartNumber: SN74ALS174N; VCC(Min)(V): 4.5; VCC(Max)(V): 5.5; Output Type: TTL; Output: 2S; ICC @ Nom Voltage(Max)(mA): 19; Bits(#): 6; F @ Nom Voltage(Max)(Mhz): 70; Rating: Catalog; Technology Family: ALS; Voltage(Nom)(V): 5; Schmitt Trigger: No; Output Drive (IOL/IOH)(Max)(mA): 8/-0.4; Output Logic: Inverted,Non-inverted; tpd @ Nom Voltage(Max)(ns): 17; DatasheetVersion: SDAS207E; PackageReference: N0016A; Supplier 1: Digi-Key; Supplier Part Number 1: 296-5030-5-ND; Supplier 2: Farnell; Supplier Part Number 2: 1749813; Supplier 3: Newark; Supplier Part Number 3: 58K2337; Supplier 4: Mouser; Supplier Part Number 4: 595-SN74ALS174N; Input Type: TTL; Operating Temperature Range(C): 0 to 70; 3-State Output: No; Code_JEDEC: MS-001; ComponentLink1Description: Manufacturer URL; ComponentLink1URL: http://www.ti.com/; ComponentLink2Description: Datasheet; ComponentLink2URL: http://www.ti.com/lit/ds/symlink/sn74als174.pdf; ComponentLink3Description: Package Specification; ComponentLink3URL: http://www.ti.com/lit/ml/mpdi002c/mpdi002c.pdf
footprint N0016A (DIP, 16-Leads, Body 19.7x6.6mm, Pitch 2.54mm)
part A pins: 1 CLR (in), 2 1Q (out), 3 1D (in), 4 2D (in), 5 2Q (out), 6 3D (in), 7 3Q (out), 9 CLK (in), 10 4Q (out), 11 4D (in), 12 5Q (out), 13 5D (in), 14 6D (in), 15 6Q (out)
part B pins: 8 GND (power), 16 VCC (power)

## SN74ALS174NSR
designator U?
Hex D-Type Positive-Edge-Triggered Flip-Flops With Clear, NS0016A, LARGE T&R; Generic Part Number: SN74ALS174; Manufacturer: Texas Instruments; PartNumber: SN74ALS174NSR; VCC(Min)(V): 4.5; VCC(Max)(V): 5.5; Output Type: TTL; Output: 2S; ICC @ Nom Voltage(Max)(mA): 19; Bits(#): 6; F @ Nom Voltage(Max)(Mhz): 70; Rating: Catalog; Technology Family: ALS; Voltage(Nom)(V): 5; Schmitt Trigger: No; Output Drive (IOL/IOH)(Max)(mA): 8/-0.4; Output Logic: Inverted,Non-inverted; tpd @ Nom Voltage(Max)(ns): 17; DatasheetVersion: SDAS207E; PackageReference: NS0016A; Supplier 1: Digi-Key; Supplier Part Number 1: 296-5031-2-ND; Supplier 2: Digi-Key; Supplier Part Number 2: 296-5031-1-ND; Supplier 3: Digi-Key; Supplier Part Number 3: 296-5031-6-ND; Supplier 4: Mouser; Supplier Part Number 4: 595-SN74ALS174NSR; Input Type: TTL; Operating Temperature Range(C): 0 to 70; 3-State Output: No; ComponentLink1Description: Manufacturer URL; ComponentLink1URL: http://www.ti.com/; ComponentLink2Description: Datasheet; ComponentLink2URL: http://www.ti.com/lit/ds/symlink/sn74als174.pdf; ComponentLink3Description: Package Specification; ComponentLink3URL: http://www.ti.com/lit/ml/msop002a/msop002a.pdf
footprint NS0016A_N (SOIC,16-Leads,Body 10.5x5.6mm,Pitch 1.27mm,IPC Medium Density)
footprint NS0016A_M (SOIC,16-Leads,Body 10.5x5.6mm,Pitch 1.27mm,IPC Low Density)
footprint NS0016A_L (SOIC,16-Leads,Body 10.5x5.6mm,Pitch 1.27mm,IPC High Density)
part A pins: 1 CLR (in), 2 1Q (out), 3 1D (in), 4 2D (in), 5 2Q (out), 6 3D (in), 7 3Q (out), 9 CLK (in), 10 4Q (out), 11 4D (in), 12 5Q (out), 13 5D (in), 14 6D (in), 15 6Q (out)
part B pins: 8 GND (power), 16 VCC (power)

## SN74ALS175D
designator U?
Quadruple D-Type Positive-Edge-Triggered Flip-Flops With Clear, D0016A, TUBE; Generic Part Number: SN74ALS175; Manufacturer: Texas Instruments; PartNumber: SN74ALS175D; VCC(Min)(V): 4.5; VCC(Max)(V): 5.5; Output Type: TTL; Output: 2S; ICC @ Nom Voltage(Max)(mA): 14; Bits(#): 4; F @ Nom Voltage(Max)(Mhz): 70; Rating: Catalog; Technology Family: ALS; Voltage(Nom)(V): 5; Schmitt Trigger: No; Output Drive (IOL/IOH)(Max)(mA): 8/-0.4; Output Logic: Inverted,Non-inverted; tpd @ Nom Voltage(Max)(ns): 17; DatasheetVersion: SDAS207E; PackageReference: D0016A; Supplier 1: Digi-Key; Supplier Part Number 1: 296-5032-5-ND; Supplier 2: Farnell; Supplier Part Number 2: 1752880; Supplier 3: Mouser; Supplier Part Number 3: 595-SN74ALS175D; Input Type: TTL; Operating Temperature Range(C): 0 to 70; 3-State Output: No; Code_JEDEC: MS-012 variation AC; ComponentLink1Description: Manufacturer URL; ComponentLink1URL: http://www.ti.com/; ComponentLink2Description: Datasheet; ComponentLink2URL: http://www.ti.com/lit/ds/symlink/sn74als175.pdf; ComponentLink3Description: Package Specification; ComponentLink3URL: http://www.ti.com/lit/ml/mpds178g/mpds178g.pdf
footprint D0016A_N (SOIC, 16-Leads, Body 10x4mm, Pitch 1.27mm, IPC Medium Density)
footprint D0016A_M (SOIC, 16-Leads, Body 10x4mm, Pitch 1.27mm, IPC Low Density)
footprint D0016A_L (SOIC, 16-Leads, Body 10x4mm, Pitch 1.27mm, IPC High Density)
part A pins: 1 CLR (in), 2 1Q (out), 3 1Q (out), 4 1D (in), 5 2D (in), 6 2Q (out), 7 2Q (out), 9 CLK (in), 10 3Q (out), 11 3Q (out), 12 3D (in), 13 4D (in), 14 4Q (out), 15 4Q (out)
part B pins: 8 GND (power), 16 VCC (power)

## SN74ALS175DR
designator U?
Quadruple D-Type Positive-Edge-Triggered Flip-Flops With Clear, D0016A, LARGE T&R; Generic Part Number: SN74ALS175; Manufacturer: Texas Instruments; PartNumber: SN74ALS175DR; VCC(Min)(V): 4.5; VCC(Max)(V): 5.5; Output Type: TTL; Output: 2S; ICC @ Nom Voltage(Max)(mA): 14; Bits(#): 4; F @ Nom Voltage(Max)(Mhz): 70; Rating: Catalog; Technology Family: ALS; Voltage(Nom)(V): 5; Schmitt Trigger: No; Output Drive (IOL/IOH)(Max)(mA): 8/-0.4; Output Logic: Inverted,Non-inverted; tpd @ Nom Voltage(Max)(ns): 17; DatasheetVersion: SDAS207E; PackageReference: D0016A; Supplier 1: Digi-Key; Supplier Part Number 1: 296-14721-2-ND; Supplier 2: Digi-Key; Supplier Part Number 2: 296-14721-1-ND; Supplier 3: Digi-Key; Supplier Part Number 3: 296-14721-6-ND; Supplier 4: Mouser; Supplier Part Number 4: 595-SN74ALS175DR; Input Type: TTL; Operating Temperature Range(C): 0 to 70; 3-State Output: No; Code_JEDEC: MS-012 variation AC; ComponentLink1Description: Manufacturer URL; ComponentLink1URL: http://www.ti.com/; ComponentLink2Description: Datasheet; ComponentLink2URL: http://www.ti.com/lit/ds/symlink/sn74als175.pdf; ComponentLink3Description: Package Specification; ComponentLink3URL: http://www.ti.com/lit/ml/mpds178g/mpds178g.pdf
footprint D0016A_N (SOIC, 16-Leads, Body 10x4mm, Pitch 1.27mm, IPC Medium Density)
footprint D0016A_M (SOIC, 16-Leads, Body 10x4mm, Pitch 1.27mm, IPC Low Density)
footprint D0016A_L (SOIC, 16-Leads, Body 10x4mm, Pitch 1.27mm, IPC High Density)
part A pins: 1 CLR (in), 2 1Q (out), 3 1Q (out), 4 1D (in), 5 2D (in), 6 2Q (out), 7 2Q (out), 9 CLK (in), 10 3Q (out), 11 3Q (out), 12 3D (in), 13 4D (in), 14 4Q (out), 15 4Q (out)
part B pins: 8 GND (power), 16 VCC (power)

## SN74ALS175N
designator U?
Quadruple D-Type Positive-Edge-Triggered Flip-Flops With Clear, N0016A, TUBE; Generic Part Number: SN74ALS175; Manufacturer: Texas Instruments; PartNumber: SN74ALS175N; VCC(Min)(V): 4.5; VCC(Max)(V): 5.5; Output Type: TTL; Output: 2S; ICC @ Nom Voltage(Max)(mA): 14; Bits(#): 4; F @ Nom Voltage(Max)(Mhz): 70; Rating: Catalog; Technology Family: ALS; Voltage(Nom)(V): 5; Schmitt Trigger: No; Output Drive (IOL/IOH)(Max)(mA): 8/-0.4; Output Logic: Inverted,Non-inverted; tpd @ Nom Voltage(Max)(ns): 17; DatasheetVersion: SDAS207E; PackageReference: N0016A; Supplier 1: Digi-Key; Supplier Part Number 1: 296-5033-5-ND; Supplier 2: Farnell; Supplier Part Number 2: 1749814; Supplier 3: Newark; Supplier Part Number 3: 08F5982; Supplier 4: Mouser; Supplier Part Number 4: 595-SN74ALS175N; Input Type: TTL; Operating Temperature Range(C): 0 to 70; 3-State Output: No; Code_JEDEC: MS-001; ComponentLink1Description: Manufacturer URL; ComponentLink1URL: http://www.ti.com/; ComponentLink2Description: Datasheet; ComponentLink2URL: http://www.ti.com/lit/ds/symlink/sn74als175.pdf; ComponentLink3Description: Package Specification; ComponentLink3URL: http://www.ti.com/lit/ml/mpdi002c/mpdi002c.pdf
footprint N0016A (DIP, 16-Leads, Body 19.7x6.6mm, Pitch 2.54mm)
part A pins: 1 CLR (in), 2 1Q (out), 3 1Q (out), 4 1D (in), 5 2D (in), 6 2Q (out), 7 2Q (out), 9 CLK (in), 10 3Q (out), 11 3Q (out), 12 3D (in), 13 4D (in), 14 4Q (out), 15 4Q (out)
part B pins: 8 GND (power), 16 VCC (power)

## SN74ALS175NSR
designator U?
Quadruple D-Type Positive-Edge-Triggered Flip-Flops With Clear, NS0016A, LARGE T&R; Generic Part Number: SN74ALS175; Manufacturer: Texas Instruments; PartNumber: SN74ALS175NSR; VCC(Min)(V): 4.5; VCC(Max)(V): 5.5; Output Type: TTL; Output: 2S; ICC @ Nom Voltage(Max)(mA): 14; Bits(#): 4; F @ Nom Voltage(Max)(Mhz): 70; Rating: Catalog; Technology Family: ALS; Voltage(Nom)(V): 5; Schmitt Trigger: No; Output Drive (IOL/IOH)(Max)(mA): 8/-0.4; Output Logic: Inverted,Non-inverted; tpd @ Nom Voltage(Max)(ns): 17; DatasheetVersion: SDAS207E; PackageReference: NS0016A; Supplier 1: Digi-Key; Supplier Part Number 1: 296-28492-2-ND; Supplier 2: Digi-Key; Supplier Part Number 2: 296-28492-1-ND; Supplier 3: Digi-Key; Supplier Part Number 3: 296-28492-6-ND; Supplier 4: Mouser; Supplier Part Number 4: 595-SN74ALS175NSR; Input Type: TTL; Operating Temperature Range(C): 0 to 70; 3-State Output: No; ComponentLink1Description: Manufacturer URL; ComponentLink1URL: http://www.ti.com/; ComponentLink2Description: Datasheet; ComponentLink2URL: http://www.ti.com/lit/ds/symlink/sn74als175.pdf; ComponentLink3Description: Package Specification; ComponentLink3URL: http://www.ti.com/lit/ml/msop002a/msop002a.pdf
footprint NS0016A_N (SOIC,16-Leads,Body 10.5x5.6mm,Pitch 1.27mm,IPC Medium Density)
footprint NS0016A_M (SOIC,16-Leads,Body 10.5x5.6mm,Pitch 1.27mm,IPC Low Density)
footprint NS0016A_L (SOIC,16-Leads,Body 10.5x5.6mm,Pitch 1.27mm,IPC High Density)
part A pins: 1 CLR (in), 2 1Q (out), 3 1Q (out), 4 1D (in), 5 2D (in), 6 2Q (out), 7 2Q (out), 9 CLK (in), 10 3Q (out), 11 3Q (out), 12 3D (in), 13 4D (in), 14 4Q (out), 15 4Q (out)
part B pins: 8 GND (power), 16 VCC (power)

## SN74ALS232BDW
designator U?
16 x 4 asynchronous FIFO memory, DW0016A, TUBE; Generic Part Number: SN74ALS232B; Manufacturer: Texas Instruments; PartNumber: SN74ALS232BDW; Vcc range(V): 4.5 to 5.5; Fmax(MHz): 50; Voltage Nodes(V): 5; Sync/Async: A; Rating: Catalog; Output Drive(mA): -0.108333333333333; Flags Empty: YES; DatasheetVersion: SCAS251B; PackageReference: DW0016A; Depth: 16; Width: 4; Operating Temperature Range(C): 0 to 70; Flags Full: YES; Code_JEDEC: MS-013 variation AA; ComponentLink1Description: Manufacturer URL; ComponentLink1URL: http://www.ti.com/; ComponentLink2Description: Datasheet; ComponentLink2URL: http://www.ti.com/lit/ds/symlink/sn74als232b.pdf; ComponentLink3Description: Package Specification; ComponentLink3URL: http://www.ti.com/lit/ml/msoi003g/msoi003g.pdf
footprint DW0016A_N (SOIC, 16-Leads, Body 10.5x7.6mm, Pitch 1.27mm, IPC Medium Density)
footprint DW0016A_M (SOIC, 16-Leads, Body 10.5x7.6mm, Pitch 1.27mm, IPC Low Density)
footprint DW0016A_L (SOIC, 16-Leads, Body 10.5x7.6mm, Pitch 1.27mm, IPC High Density)
pins: 1 OE (in), 2 ~{FULL} (out), 3 LDCK (in), 4 D0 (in), 5 D1 (in), 6 D2 (in), 7 D3 (in), 8 GND (power), 9 ~{RST} (in), 10 Q3 (hiz), 11 Q2 (hiz), 12 Q1 (hiz), 13 Q0 (hiz), 14 ~{EMPTY} (out), 15 UNCK (in), 16 VCC (power)

## SN74ALS232BN
designator U?
16 x 4 asynchronous FIFO memory, N0016A, TUBE; Generic Part Number: SN74ALS232B; Manufacturer: Texas Instruments; PartNumber: SN74ALS232BN; Vcc range(V): 4.5 to 5.5; Fmax(MHz): 50; Voltage Nodes(V): 5; Sync/Async: A; Rating: Catalog; Output Drive(mA): -0.108333333333333; Flags Empty: YES; DatasheetVersion: SCAS251B; PackageReference: N0016A; Depth: 16; Width: 4; Operating Temperature Range(C): 0 to 70; Flags Full: YES; Code_JEDEC: MS-001; ComponentLink1Description: Manufacturer URL; ComponentLink1URL: http://www.ti.com/; ComponentLink2Description: Datasheet; ComponentLink2URL: http://www.ti.com/lit/ds/symlink/sn74als232b.pdf; ComponentLink3Description: Package Specification; ComponentLink3URL: http://www.ti.com/lit/ml/mpdi002c/mpdi002c.pdf
footprint N0016A (DIP, 16-Leads, Body 19.7x6.6mm, Pitch 2.54mm)
pins: 1 OE (in), 2 ~{FULL} (out), 3 LDCK (in), 4 D0 (in), 5 D1 (in), 6 D2 (in), 7 D3 (in), 8 GND (power), 9 ~{RST} (in), 10 Q3 (hiz), 11 Q2 (hiz), 12 Q1 (hiz), 13 Q0 (hiz), 14 ~{EMPTY} (out), 15 UNCK (in), 16 VCC (power)

## SN74ALS236N
designator U?
64 x 4 asynchronous FIFO memory, N0016A, TUBE; Generic Part Number: SN74ALS236; Manufacturer: Texas Instruments; PartNumber: SN74ALS236N; Vcc range(V): 4.5 to 5.5; Fmax(MHz): 30; Voltage Nodes(V): 5; Sync/Async: A; Rating: Catalog; Output Drive(mA): -0.108333333333333; DatasheetVersion: SDAS107C; PackageReference: N0016A; Depth: 64; Width: 4; Operating Temperature Range(C): 0 to 70; Code_JEDEC: MS-001; ComponentLink1Description: Manufacturer URL; ComponentLink1URL: http://www.ti.com/; ComponentLink2Description: Datasheet; ComponentLink2URL: http://www.ti.com/lit/ds/symlink/sn74als236.pdf; ComponentLink3Description: Package Specification; ComponentLink3URL: http://www.ti.com/lit/ml/mpdi002c/mpdi002c.pdf
footprint N0016A (DIP, 16-Leads, Body 19.7x6.6mm, Pitch 2.54mm)
pins: 1 NC, 2 IR (out), 3 SI (in), 4 D0 (in), 5 D1 (in), 6 D2 (in), 7 D3 (in), 8 GND (power), 9 ~{RST} (in), 10 Q3 (hiz), 11 Q2 (hiz), 12 Q1 (hiz), 13 Q0 (hiz), 14 OR (out), 15 SO (in), 16 VCC (power)

## SN74ALS273DW
designator U?
Octal D-Type Positive-Edge-Triggered Flip-Flops With Clear, DW0020A, TUBE; Generic Part Number: SN74ALS273; Manufacturer: Texas Instruments; PartNumber: SN74ALS273DW; VCC(Min)(V): 4.5; VCC(Max)(V): 5.5; Output Type: TTL; Output: 2S; ICC @ Nom Voltage(Max)(mA): 29; Bits(#): 8; F @ Nom Voltage(Max)(Mhz): 70; Rating: Catalog; Technology Family: ALS; Voltage(Nom)(V): 5; Schmitt Trigger: No; Output Drive (IOL/IOH)(Max)(mA): 24/-2.6; Output Logic: Non-inverted; tpd @ Nom Voltage(Max)(ns): 15; DatasheetVersion: SDAS218A; PackageReference: DW0020A; Supplier 1: Digi-Key; Supplier Part Number 1: 296-1126-5-ND; Supplier 2: Farnell; Supplier Part Number 2: 1739993; Supplier 3: Newark; Supplier Part Number 3: 50R6000; Supplier 4: Mouser; Supplier Part Number 4: 595-SN74ALS273DW; Input Type: TTL; Operating Temperature Range(C): 0 to 70; 3-State Output: No; Code_JEDEC: MS-013; ComponentLink1Description: Manufacturer URL; ComponentLink1URL: http://www.ti.com/; ComponentLink2Description: Datasheet; ComponentLink2URL: http://www.ti.com/lit/ds/symlink/sn74als273.pdf; ComponentLink3Description: Package Specification; ComponentLink3URL: http://www.ti.com/lit/ml/mpds173a/mpds173a.pdf
footprint DW0020A_N (SOIC, 20-Leads, Body 13x7.6mm, Pitch 1.27mm, IPC Medium Density)
footprint DW0020A_M (SOIC, 20-Leads, Body 13x7.6mm, Pitch 1.27mm, IPC Low Density)
footprint DW0020A_L (SOIC, 20-Leads, Body 13x7.6mm, Pitch 1.27mm, IPC High Density)
part A pins: 1 CLR (in) "Clear Pin", 2 1Q (out) "1Q Output", 3 1D (in) "1D Input", 4 2D (in) "2D Input", 5 2Q (out) "2Q Output", 6 3Q (out) "3Q Output", 7 3D (in) "3D Input", 8 4D (in) "4D Input", 9 4Q (out) "4Q Output", 11 CLK (in) "Clock Pin", 12 5Q (out) "5Q Output", 13 5D (in) "5D Input", 14 6D (in) "6D Input", 15 6Q (out) "6Q Output", 16 7Q (out) "7Q Output", 17 7D (in) "7D Input", 18 8D (in) "8D Input", 19 8Q (out) "8Q Output"
part B pins: 10 GND (power) "Ground Pin", 20 VCC (power) "Power Pin"

## SN74ALS273DWR
designator U?
Octal D-Type Positive-Edge-Triggered Flip-Flops With Clear, DW0020A, LARGE T&R; Generic Part Number: SN74ALS273; Manufacturer: Texas Instruments; PartNumber: SN74ALS273DWR; VCC(Min)(V): 4.5; VCC(Max)(V): 5.5; Output Type: TTL; Output: 2S; ICC @ Nom Voltage(Max)(mA): 29; Bits(#): 8; F @ Nom Voltage(Max)(Mhz): 70; Rating: Catalog; Technology Family: ALS; Voltage(Nom)(V): 5; Schmitt Trigger: No; Output Drive (IOL/IOH)(Max)(mA): 24/-2.6; Output Logic: Non-inverted; tpd @ Nom Voltage(Max)(ns): 15; DatasheetVersion: SDAS218A; PackageReference: DW0020A; Supplier 1: Digi-Key; Supplier Part Number 1: 296-1126-2-ND; Supplier 2: Digi-Key; Supplier Part Number 2: 296-1126-1-ND; Supplier 3: Digi-Key; Supplier Part Number 3: 296-1126-6-ND; Supplier 4: Newark; Supplier Part Number 4: 35C2025; Supplier 5: Mouser; Supplier Part Number 5: 595-SN74ALS273DWR; Input Type: TTL; Operating Temperature Range(C): 0 to 70; 3-State Output: No; Code_JEDEC: MS-013; ComponentLink1Description: Manufacturer URL; ComponentLink1URL: http://www.ti.com/; ComponentLink2Description: Datasheet; ComponentLink2URL: http://www.ti.com/lit/ds/symlink/sn74als273.pdf; ComponentLink3Description: Package Specification; ComponentLink3URL: http://www.ti.com/lit/ml/mpds173a/mpds173a.pdf
footprint DW0020A_N (SOIC, 20-Leads, Body 13x7.6mm, Pitch 1.27mm, IPC Medium Density)
footprint DW0020A_M (SOIC, 20-Leads, Body 13x7.6mm, Pitch 1.27mm, IPC Low Density)
footprint DW0020A_L (SOIC, 20-Leads, Body 13x7.6mm, Pitch 1.27mm, IPC High Density)
part A pins: 1 CLR (in) "Clear Pin", 2 1Q (out) "1Q Output", 3 1D (in) "1D Input", 4 2D (in) "2D Input", 5 2Q (out) "2Q Output", 6 3Q (out) "3Q Output", 7 3D (in) "3D Input", 8 4D (in) "4D Input", 9 4Q (out) "4Q Output", 11 CLK (in) "Clock Pin", 12 5Q (out) "5Q Output", 13 5D (in) "5D Input", 14 6D (in) "6D Input", 15 6Q (out) "6Q Output", 16 7Q (out) "7Q Output", 17 7D (in) "7D Input", 18 8D (in) "8D Input", 19 8Q (out) "8Q Output"
part B pins: 10 GND (power) "Ground Pin", 20 VCC (power) "Power Pin"

## SN74ALS273N
designator U?
Octal D-Type Positive-Edge-Triggered Flip-Flops With Clear, N0020A, TUBE; Generic Part Number: SN74ALS273; Manufacturer: Texas Instruments; PartNumber: SN74ALS273N; VCC(Min)(V): 4.5; VCC(Max)(V): 5.5; Output Type: TTL; Output: 2S; ICC @ Nom Voltage(Max)(mA): 29; Bits(#): 8; F @ Nom Voltage(Max)(Mhz): 70; Rating: Catalog; Technology Family: ALS; Voltage(Nom)(V): 5; Schmitt Trigger: No; Output Drive (IOL/IOH)(Max)(mA): 24/-2.6; Output Logic: Non-inverted; tpd @ Nom Voltage(Max)(ns): 15; DatasheetVersion: SDAS218A; PackageReference: N0020A; Supplier 1: Digi-Key; Supplier Part Number 1: 296-1493-5-ND; Supplier 2: Farnell; Supplier Part Number 2: 1607723; Supplier 3: Newark; Supplier Part Number 3: 08F6025; Supplier 4: Mouser; Supplier Part Number 4: 595-SN74ALS273N; Input Type: TTL; Operating Temperature Range(C): 0 to 70; 3-State Output: No; Code_JEDEC: MS-001; ComponentLink1Description: Manufacturer URL; ComponentLink1URL: http://www.ti.com/; ComponentLink2Description: Datasheet; ComponentLink2URL: http://www.ti.com/lit/ds/symlink/sn74als273.pdf; ComponentLink3Description: Package Specification; ComponentLink3URL: http://www.ti.com/lit/ml/mpdi002c/mpdi002c.pdf
footprint N0020A (DIP, 20-Leads, Body 26.9x6.6mm, Pitch 2.54mm)
part A pins: 1 CLR (in) "Clear Pin", 2 1Q (out) "1Q Output", 3 1D (in) "1D Input", 4 2D (in) "2D Input", 5 2Q (out) "2Q Output", 6 3Q (out) "3Q Output", 7 3D (in) "3D Input", 8 4D (in) "4D Input", 9 4Q (out) "4Q Output", 11 CLK (in) "Clock Pin", 12 5Q (out) "5Q Output", 13 5D (in) "5D Input", 14 6D (in) "6D Input", 15 6Q (out) "6Q Output", 16 7Q (out) "7Q Output", 17 7D (in) "7D Input", 18 8D (in) "8D Input", 19 8Q (out) "8Q Output"
part B pins: 10 GND (power) "Ground Pin", 20 VCC (power) "Power Pin"

## SN74ALS273NSR
designator U?
Octal D-Type Positive-Edge-Triggered Flip-Flops With Clear, NS0020A, LARGE T&R; Generic Part Number: SN74ALS273; Manufacturer: Texas Instruments; PartNumber: SN74ALS273NSR; VCC(Min)(V): 4.5; VCC(Max)(V): 5.5; Output Type: TTL; Output: 2S; ICC @ Nom Voltage(Max)(mA): 29; Bits(#): 8; F @ Nom Voltage(Max)(Mhz): 70; Rating: Catalog; Technology Family: ALS; Voltage(Nom)(V): 5; Schmitt Trigger: No; Output Drive (IOL/IOH)(Max)(mA): 24/-2.6; Output Logic: Non-inverted; tpd @ Nom Voltage(Max)(ns): 15; DatasheetVersion: SDAS218A; PackageReference: NS0020A; Supplier 1: Digi-Key; Supplier Part Number 1: 296-28897-2-ND; Supplier 2: Digi-Key; Supplier Part Number 2: 296-28897-1-ND; Supplier 3: Digi-Key; Supplier Part Number 3: 296-28897-6-ND; Supplier 4: Mouser; Supplier Part Number 4: 595-SN74ALS273NSR; Input Type: TTL; Operating Temperature Range(C): 0 to 70; 3-State Output: No; ComponentLink1Description: Manufacturer URL; ComponentLink1URL: http://www.ti.com/; ComponentLink2Description: Datasheet; ComponentLink2URL: http://www.ti.com/lit/ds/symlink/sn74als273.pdf; ComponentLink3Description: Package Specification; ComponentLink3URL: http://www.ti.com/lit/ml/msop002a/msop002a.pdf
footprint NS0020A_N (SOIC,20-Leads,Body 12.9x5.6mm,Pitch 1.27mm,IPC Medium Density)
footprint NS0020A_M (SOIC,20-Leads,Body 12.9x5.6mm,Pitch 1.27mm,IPC Low Density)
footprint NS0020A_L (SOIC,20-Leads,Body 12.9x5.6mm,Pitch 1.27mm,IPC High Density)
part A pins: 1 CLR (in) "Clear Pin", 2 1Q (out) "1Q Output", 3 1D (in) "1D Input", 4 2D (in) "2D Input", 5 2Q (out) "2Q Output", 6 3Q (out) "3Q Output", 7 3D (in) "3D Input", 8 4D (in) "4D Input", 9 4Q (out) "4Q Output", 11 CLK (in) "Clock Pin", 12 5Q (out) "5Q Output", 13 5D (in) "5D Input", 14 6D (in) "6D Input", 15 6Q (out) "6Q Output", 16 7Q (out) "7Q Output", 17 7D (in) "7D Input", 18 8D (in) "8D Input", 19 8Q (out) "8Q Output"
part B pins: 10 GND (power) "Ground Pin", 20 VCC (power) "Power Pin"

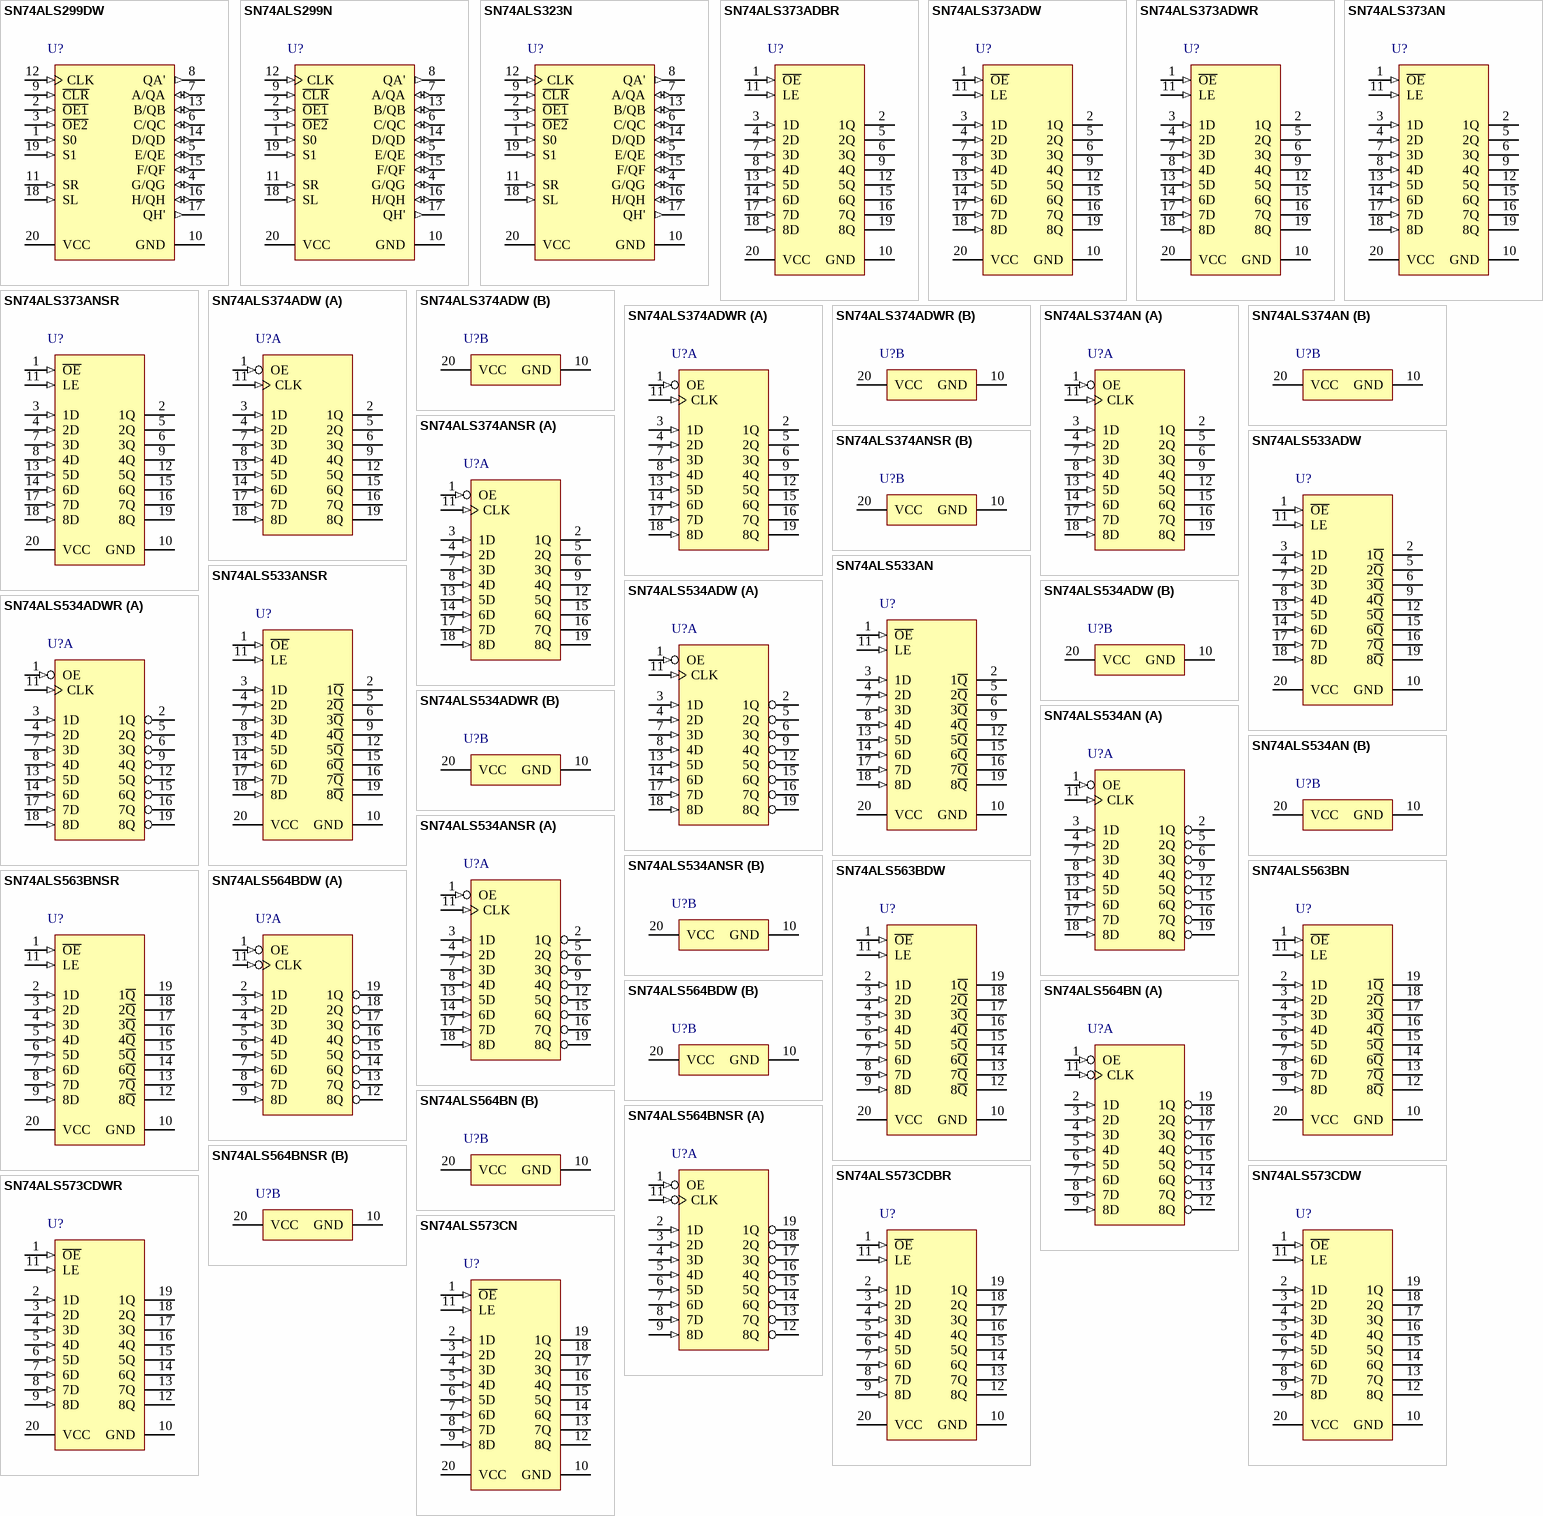
[diagram p73: symbols SN74ALS299DW to SN74ALS573CN]

## SN74ALS299DW
designator U?
8-Bit Universal Shift/Storage Registers With 3-State Outputs, DW0020A, TUBE; Generic Part Number: SN74ALS299; Manufacturer: Texas Instruments; PartNumber: SN74ALS299DW; Technology Family: ALS; VCC(Min)(V): 4.5; VCC(Max)(V): 5.5; Voltage(Nom)(V): 5; F @ Nom Voltage(Max)(Mhz): 75; ICC @ Nom Voltage(Max)(mA): 40; tpd @ Nom Voltage(Max)(ns): 19; Output Drive (IOL/IOH)(Max)(mA): 24/-2.6; Input Type: TTL; 3-State Output: Yes; Rating: Catalog; Bits: 16; DatasheetVersion: SDAS220B; PackageReference: DW0020A; Output Type: TTL; Operating Temperature Range(C): 0 to 70; Code_JEDEC: MS-013; ComponentLink1Description: Manufacturer URL; ComponentLink1URL: http://www.ti.com/; ComponentLink2Description: Datasheet; ComponentLink2URL: http://www.ti.com/lit/ds/symlink/sn74als299.pdf; ComponentLink3Description: Package Specification; ComponentLink3URL: http://www.ti.com/lit/ml/mpds173a/mpds173a.pdf
footprint DW0020A_N (SOIC, 20-Leads, Body 13x7.6mm, Pitch 1.27mm, IPC Medium Density)
footprint DW0020A_M (SOIC, 20-Leads, Body 13x7.6mm, Pitch 1.27mm, IPC Low Density)
footprint DW0020A_L (SOIC, 20-Leads, Body 13x7.6mm, Pitch 1.27mm, IPC High Density)
pins: 1 S0 (in), 2 ~{OE1} (in), 3 ~{OE2} (in), 4 G/QG (io), 5 E/QE (io), 6 C/QC (io), 7 A/QA (io), 8 QA' (out), 9 ~{CLR} (in), 10 GND (power), 11 SR (in), 12 CLK (in), 13 B/QB (io), 14 D/QD (io), 15 F/QF (io), 16 H/QH (io), 17 QH' (out), 18 SL (in), 19 S1 (in), 20 VCC (power)

## SN74ALS299N
designator U?
8-Bit Universal Shift/Storage Registers With 3-State Outputs, N0020A, TUBE; Generic Part Number: SN74ALS299; Manufacturer: Texas Instruments; PartNumber: SN74ALS299N; Technology Family: ALS; VCC(Min)(V): 4.5; VCC(Max)(V): 5.5; Voltage(Nom)(V): 5; F @ Nom Voltage(Max)(Mhz): 75; ICC @ Nom Voltage(Max)(mA): 40; tpd @ Nom Voltage(Max)(ns): 19; Output Drive (IOL/IOH)(Max)(mA): 24/-2.6; Input Type: TTL; 3-State Output: Yes; Rating: Catalog; Bits: 16; DatasheetVersion: SDAS220B; PackageReference: N0020A; Output Type: TTL; Operating Temperature Range(C): 0 to 70; Code_JEDEC: MS-001; ComponentLink1Description: Manufacturer URL; ComponentLink1URL: http://www.ti.com/; ComponentLink2Description: Datasheet; ComponentLink2URL: http://www.ti.com/lit/ds/symlink/sn74als299.pdf; ComponentLink3Description: Package Specification; ComponentLink3URL: http://www.ti.com/lit/ml/mpdi002c/mpdi002c.pdf
footprint N0020A (DIP, 20-Leads, Body 26.9x6.6mm, Pitch 2.54mm)
pins: 1 S0 (in), 2 ~{OE1} (in), 3 ~{OE2} (in), 4 G/QG (io), 5 E/QE (io), 6 C/QC (io), 7 A/QA (io), 8 QA' (out), 9 ~{CLR} (in), 10 GND (power), 11 SR (in), 12 CLK (in), 13 B/QB (io), 14 D/QD (io), 15 F/QF (io), 16 H/QH (io), 17 QH' (out), 18 SL (in), 19 S1 (in), 20 VCC (power)

## SN74ALS323N
designator U?
8-Bit Universal Shift/Storage Registers With Synchronous Clear And 3-State Outputs, N0020A, TUBE; Generic Part Number: SN74ALS323; Manufacturer: Texas Instruments; PartNumber: SN74ALS323N; Technology Family: ALS; VCC(Min)(V): 4.5; VCC(Max)(V): 5.5; Voltage(Nom)(V): 5; F @ Nom Voltage(Max)(Mhz): 75; ICC @ Nom Voltage(Max)(mA): 40; tpd @ Nom Voltage(Max)(ns): 19; Output Drive (IOL/IOH)(Max)(mA): 24/-2.6; Input Type: TTL; 3-State Output: Yes; Rating: Catalog; Bits: 8; DatasheetVersion: SDAS267A; PackageReference: N0020A; Output Type: TTL; Operating Temperature Range(C): 0 to 70; Code_JEDEC: MS-001; ComponentLink1Description: Manufacturer URL; ComponentLink1URL: http://www.ti.com/; ComponentLink2Description: Datasheet; ComponentLink2URL: http://www.ti.com/lit/ds/symlink/sn74als323.pdf; ComponentLink3Description: Package Specification; ComponentLink3URL: http://www.ti.com/lit/ml/mpdi002c/mpdi002c.pdf
footprint N0020A (DIP, 20-Leads, Body 26.9x6.6mm, Pitch 2.54mm)
pins: 1 S0 (in), 2 ~{OE1} (in), 3 ~{OE2} (in), 4 G/QG (io), 5 E/QE (io), 6 C/QC (io), 7 A/QA (io), 8 QA' (out), 9 ~{CLR} (in), 10 GND (power), 11 SR (in), 12 CLK (in), 13 B/QB (io), 14 D/QD (io), 15 F/QF (io), 16 H/QH (io), 17 QH' (out), 18 SL (in), 19 S1 (in), 20 VCC (power)